# EAGLE library part GAMEBOYZEROHANDHELDDISPLAYS-2.8 (library GameboyZeroHandheldDisplays)
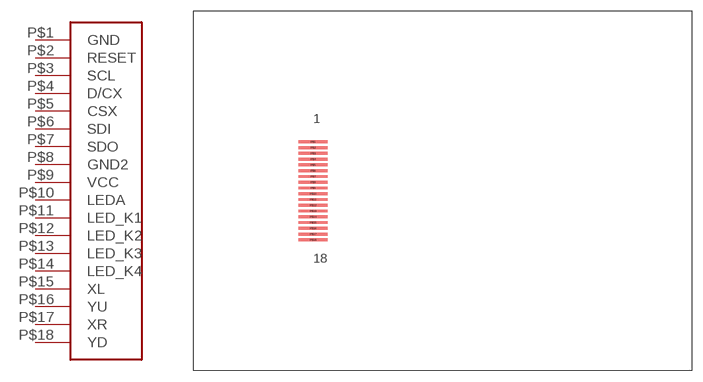
[diagram p2: symbol with the pads of GAMEBOYZEROHANDHELDDISPLAYS-2.8; footprint GAMEBOYZEROHANDHELDDISPLAYS-2.8]

Designator prefix -

## GAMEBOYZEROHANDHELDDISPLAYS-2.8  [GAMEBOYZEROHANDHELDDISPLAYS-2.8]
P$1  GND
P$2  RESET
P$3  SCL
P$4  D/CX
P$5  CSX
P$6  SDI
P$7  SDO
P$8  GND2
P$9  VCC
P$10  LEDA
P$11  LED_K1
P$12  LED_K2
P$13  LED_K3
P$14  LED_K4
P$15  XL
P$16  YU
P$17  XR
P$18  YD

## Footprint GAMEBOYZEROHANDHELDDISPLAYS-2.8 (pad centres in mm)
Gameboy Zero Handheld Displays - 2.8 Inch connector for ili9341 screens with SPI interface
smd 4 x 0.4: P$1 -18,6.8; P$2 -18,6; P$3 -18,5.2; P$4 -18,4.4; P$5 -18,3.6; P$6 -18,2.8; P$7 -18,2; P$8 -18,1.2; P$9 -18,0.4; P$10 -18,-0.4; P$11 -18,-1.2; P$12 -18,-2; P$13 -18,-2.8; P$14 -18,-3.6; P$15 -18,-4.4; P$16 -18,-5.2; P$17 -18,-6; P$18 -18,-6.8